# Altium footprint library Led_Matrix.PcbLib: 23 footprints (part 2 of 2)
Each footprint in its own frame and in the unit in brackets; x right, y up, seen from the top. Pads: shape width x height; smd on the part's side, far side on the other; paste and mask are expansions set on the pad; w line width, h text height; cw(c..) or ccw(c..) is an arc to the next point about the centre after c.
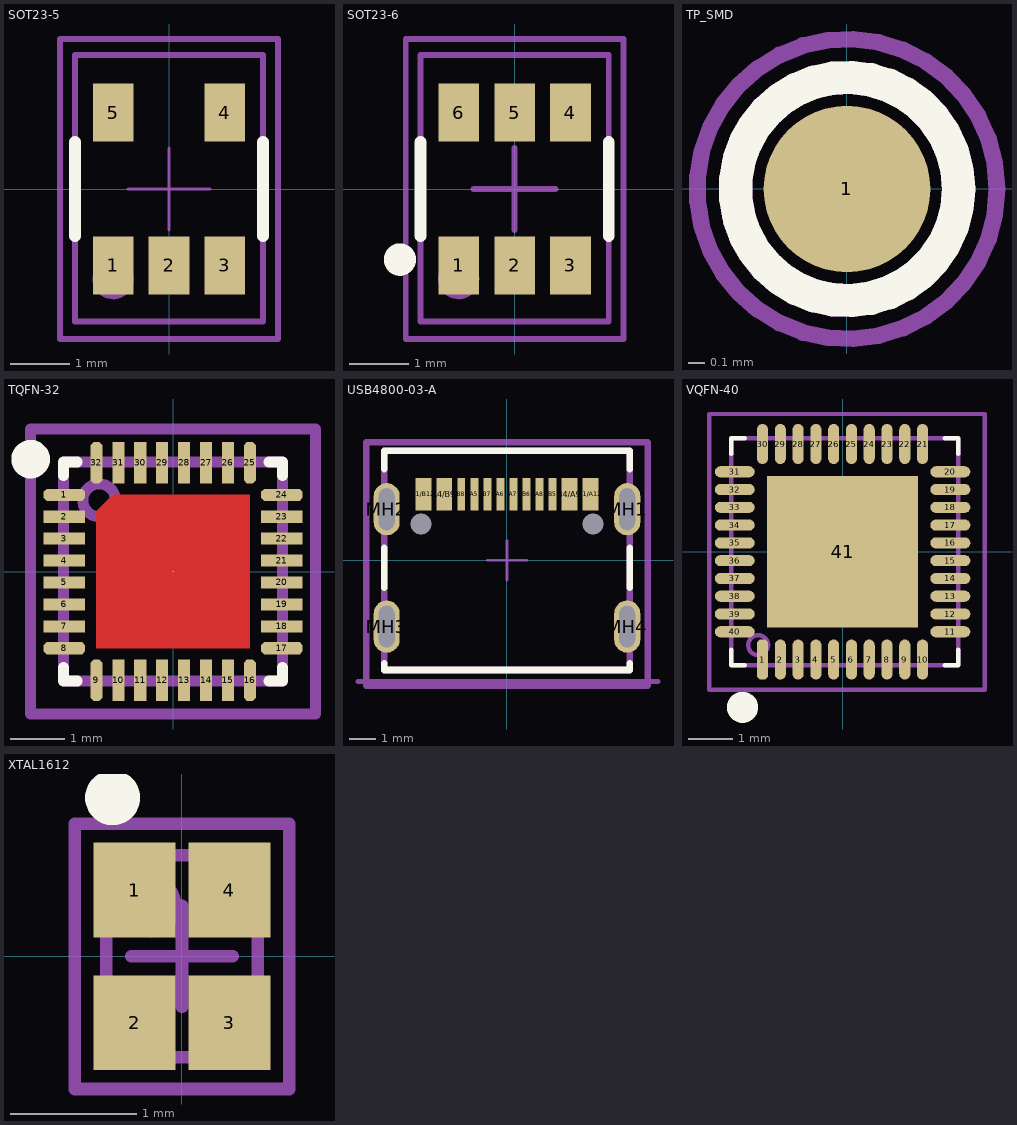
[diagram p1: the footprints below, top view; thin cyan lines are the x and y axes]

## SOT23-5 [mm]
pads (5):
  rect 0.69x0.99 smd: 1(-0.95,-1.3) 2(0,-1.3) 3(0.95,-1.3) 4(0.95,1.3) 5(-0.95,1.3)
Top Overlay:
  lines w0.2: -1.6,-0.8 -1.6,0.8 ; 1.6,-0.8 1.6,0.8
Top Assembly:
  circle w0.1: c-0.95,-1.525 r0.3
  lines w0.1: -1.6,-2.25 1.6,-2.25 1.6,2.275 -1.6,2.275 -1.6,-2.25
Top Designator:
  text ".Designator" at -0.625,-1.9 h1
Top Value:
  text ".Comment" at 1.014,-2.1 h1
Top Courtyard:
  lines w0.05: -0.7,0 0,0 ; -0.004,0 0.696,0 ; -0.002,-0.698 -0.002,0.002 ; -0.002,0 -0.002,0.7
  lines w0.1: -1.85,-2.55 1.85,-2.55 1.85,2.55 -1.85,2.55 -1.85,-2.55
3D body "MIC5219-3.3YM5-TR.stp": height 1.45, standoff 0, extent -1.45,-1.4 1.45,1.4

## SOT23-6 [mm]
pads (6):
  rect 0.69x0.99 smd: 1(-0.95,-1.3) 2(0,-1.3) 3(0.95,-1.3) 4(0.95,1.3) 5(0,1.3) 6(-0.95,1.3)
Top Overlay:
  circle w0.3: c-1.95,-1.2 r0.125
  lines w0.2: -1.6,-0.8 -1.6,0.8 ; 1.6,-0.8 1.6,0.8
Top Solder:
  circle w0.5: c-1.6,-2.25 r0.09
Top Assembly:
  circle w0.1: c-0.95,-1.525 r0.3
  lines w0.1: -1.6,-2.25 1.6,-2.25 1.6,2.275 -1.6,2.275 -1.6,-2.25
Top Designator:
  text ".Designator" at -0.625,-1.9 h1
Top Value:
  text ".Comment" at 1.014,-2.1 h1
Top Courtyard:
  lines w0.1: -0.7,0 0,0 ; -0.004,0 0.696,0 ; -0.002,-0.698 -0.002,0.002 ; -0.002,0 -0.002,0.7 ; -1.85,-2.55 1.85,-2.55 1.85,2.55 -1.85,2.55 -1.85,-2.55
3D body "SOT26_AP3445_DIO.step": height 1.4, standoff 0, extent -1.55,-1.499 1.548,1.499

## TP_SMD [mm]
pads (1):
  round 1 smd paste-0.5 mask+0: 1(0,0)
Top Overlay:
  circle w0.2: c0,0 r0.67
Top Assembly:
  circle w0.2: c0,0 r0.67
Top Designator:
  text ".Designator" at -0.2,0.125 h0.6
Top Courtyard:
  circle w0.1: c0,0 r0.9
  lines w0.1: -0.25,0 0.25,0 ; 0,-0.25 0,0.25

## TQFN-32 [mm]
pads (33):
  oct 0.76x0.22 smd mask+0.05: 1(-1.985,1.4) 8(-1.985,-1.4) 17(1.985,-1.4) 24(1.985,1.4)
  rect 0.76x0.22 smd mask+0.05: 2(-1.985,1) 3(-1.985,0.6) 4(-1.985,0.2) 5(-1.985,-0.2) 6(-1.985,-0.6) 7(-1.985,-1) 18(1.985,-1) 19(1.985,-0.6) 20(1.985,-0.2) 21(1.985,0.2) 22(1.985,0.6) 23(1.985,1)
  oct 0.22x0.76 smd mask+0.05: 9(-1.4,-1.985) 16(1.4,-1.985) 25(1.4,1.985) 32(-1.4,1.985)
  rect 0.22x0.76 smd mask+0.05: 10(-1,-1.985) 11(-0.6,-1.985) 12(-0.2,-1.985) 13(0.2,-1.985) 14(0.6,-1.985) 15(1,-1.985) 26(1,1.985) 27(0.6,1.985) 28(0.2,1.985) 29(-0.2,1.985) 30(-0.6,1.985) 31(-1,1.985)
  round 0.025 smd paste-0.1 mask+0.05: 33(0,0)
Top Layer:
  region: -1.4,-1.4 -1.4,1.1 -1.1,1.4 1.4,1.4 1.4,-1.4
Top Overlay:
  circle w0.4: c-2.6,2.05 r0.151
  lines w0.2: -2,-1.75 -2,-2 -1.75,-2 ; -2,1.75 -2,2 -1.75,2 ; 1.75,-2 2,-2 2,-1.75 ; 1.75,2 2,2 2,1.75
Top Solder:
  circle w0.6: c-2.15,2.8 r0.075
Top Assembly:
  circle w0.2: c-1.35,1.3 r0.3
  lines w0.2: -2,-2 2,-2 2,2 -2,2 -2,-2
Top Designator:
  text ".Designator" at -0.385,0.6 h1
Top Value:
  text ".Comment" at -1.985,-1.389 h1
Top Courtyard:
  lines w0.2: -0.7,0 0.7,0 ; 0,-0.7 0,0.7 ; -2.6,-2.6 -2.6,2.6 2.6,2.6 2.6,-2.6 -2.6,-2.6
3D body "User Library-QFN 32.step": height 0.61, standoff 0, extent -2.001,-2.001 2.001,2.001

## USB4800-03-A [mm]
pads (18):
  round 0 hole 0.8 unplated paste+0 mask+0.05: 0(-3.3,1.403) 0(3.3,1.403)
  rect 0.6x1.25 smd paste+0 mask+0.05: A1/B12(-3.2,2.538) A4/B9(-2.4,2.538) B1/A12(3.2,2.538) B4/A9(2.4,2.538)
  rect 0.3x1.25 smd paste+0 mask+0.05: A5(-1.25,2.538) A6(-0.25,2.538) A7(0.25,2.538) B5(1.75,2.538) B7(-0.75,2.538) B8(-1.75,2.538)
  rect 0.3x1.25 smd mask+0.05: A8(1.25,2.538) B6(0.75,2.538)
  oval 1x2 hole 0.6 slot 1.6 at 90 deg paste+0 mask+0.05: MH1(4.61,1.963) MH2(-4.61,1.963) MH3(-4.61,-2.537) MH4(4.61,-2.537)
Top Overlay:
  lines w0.254: -4.7,-3.95 -4.7,-4.2 4.7,-4.2 4.7,-3.95 ; -4.7,-1.05 -4.7,0.475 ; -4.7,3.5 -4.7,4.2 4.7,4.2 4.7,3.5 ; 4.7,-1.05 4.7,0.475
Top Paste:
  region: 5.1,-2.05 5.1,-1.951 5.024,-1.767 4.883,-1.626 4.699,-1.55 4.6,-1.55 4.506,-1.55 4.331,-1.622 4.197,-1.756 4.125,-1.931 4.125,-2.025 4.125,-3.025 4.125,-3.124 4.201,-3.308 4.342,-3.449 4.526,-3.525 4.625,-3.525 4.719,-3.525 4.894,-3.453 5.028,-3.319 5.1,-3.144 5.1,-3.05
  region: -4.12,-2.05 -4.12,-1.951 -4.196,-1.767 -4.337,-1.626 -4.521,-1.55 -4.62,-1.55 -4.714,-1.55 -4.889,-1.622 -5.023,-1.756 -5.095,-1.931 -5.095,-2.025 -5.095,-3.025 -5.095,-3.124 -5.019,-3.308 -4.878,-3.449 -4.694,-3.525 -4.595,-3.525 -4.501,-3.525 -4.326,-3.453 -4.192,-3.319 -4.12,-3.144 -4.12,-3.05
  region: -4.12,2.45 -4.12,2.549 -4.196,2.733 -4.337,2.874 -4.521,2.95 -4.62,2.95 -4.714,2.95 -4.889,2.878 -5.023,2.744 -5.095,2.569 -5.095,2.475 -5.095,1.475 -5.095,1.376 -5.019,1.192 -4.878,1.051 -4.694,0.975 -4.595,0.975 -4.501,0.975 -4.326,1.047 -4.192,1.181 -4.12,1.356 -4.12,1.45
  region: 5.1,2.45 5.1,2.549 5.024,2.733 4.883,2.874 4.699,2.95 4.6,2.95 4.506,2.95 4.331,2.878 4.197,2.744 4.125,2.569 4.125,2.475 4.125,1.475 4.125,1.376 4.201,1.192 4.342,1.051 4.526,0.975 4.625,0.975 4.719,0.975 4.894,1.047 5.028,1.181 5.1,1.356 5.1,1.45
Mechanical 1:
  lines w0.2: -5.71,-4.637 5.79,-4.637
  text "PCB EDGE" at -5.71,-5.526 h1
Top Assembly:
  lines w0.254: -4.7,-4.2 -4.7,4.2 4.7,4.2 4.7,-4.2 -4.7,-4.2
Top Designator:
  text ".Designator" at -0.1,-0.1 h1
Top Value:
  text ".Comment" at -3.75,-2.939 h1
Top Courtyard:
  lines w0.1: -0.75,0 0.75,0 ; 0,-0.75 0,0.75
  lines w0.254: -5.4,-4.8 5.4,-4.8 5.4,4.525 -5.4,4.525 -5.4,-4.8
3D body "USB4800-03-A--3DModel-STEP-56544.STEP": height 5.38, standoff -1.3, extent -4.735,-5.475 4.735,2.925

## VQFN-40 [mm]
pads (41):
  oct 0.25x0.9 smd paste-0.05 mask+0.05: 1(-1.8,-2.425)
  oval 0.25x0.9 smd paste-0.05 mask+0.05: 2(-1.4,-2.425) 3(-1,-2.425) 4(-0.6,-2.425) 5(-0.2,-2.425) 6(0.2,-2.425) 7(0.6,-2.425) 8(1,-2.425) 9(1.4,-2.425) 10(1.8,-2.425) 21(1.8,2.425) 22(1.4,2.425) 23(1,2.425) 24(0.6,2.425) 25(0.2,2.425) 26(-0.2,2.425) 27(-0.6,2.425) 28(-1,2.425) 29(-1.4,2.425) 30(-1.8,2.425)
  oval 0.9x0.25 smd paste-0.05 mask+0.05: 11(2.425,-1.8) 12(2.425,-1.4) 13(2.425,-1) 14(2.425,-0.6) 15(2.425,-0.2) 16(2.425,0.2) 17(2.425,0.6) 18(2.425,1) 19(2.425,1.4) 20(2.425,1.8) 31(-2.425,1.8) 32(-2.425,1.4) 33(-2.425,1) 34(-2.425,0.6) 35(-2.425,0.2) 36(-2.425,-0.2) 37(-2.425,-0.6) 38(-2.425,-1) 39(-2.425,-1.4) 40(-2.425,-1.8)
  rect 3.4x3.4 smd paste-2539.97 mask+0.05: 41(0,0)
Top Overlay:
  circle w0.4: c-2.25,-3.5 r0.15
  lines w0.1: -2.5,-2.2 -2.5,-2.55 -2.2,-2.55 ; -2.5,2.2 -2.5,2.55 -2.2,2.55 ; 2.3,-2.55 2.6,-2.55 2.6,-2.2 ; 2.3,2.55 2.6,2.55 2.6,2.2
Top Paste:
  region: 1.45,-0.25 0.25,-0.25 0.25,-1.45 1.45,-1.45
  rectangle: -1.45,-1.45 -0.25,-0.25
  rectangle: -1.45,0.25 -0.25,1.45
  region: 1.45,1.45 0.25,1.45 0.25,0.25 1.45,0.25
Top Assembly:
  circle w0.1: c-1.9,-2.1 r0.224
  lines w0.1: -2.5,-2.55 2.6,-2.55 2.6,2.55 -2.5,2.55 -2.5,-2.55
Top Designator:
  text ".Designator" at 0,-0.094 h0.5
Top Value:
  text ".Comment" at -2.4,2.494 h0.5
Top Courtyard:
  lines w0.1: -0.3,0 0,0 ; 0,-0.3 0,0 ; 0,0.3 0,0 ; 0.3,0 0,0 ; -3,-3.1 -3,3.1 3.2,3.1 3.2,-3.1 -3,-3.1
3D body "RKP0040B.stp": height 1, standoff 0, extent -2.5,-2.5 2.5,2.5

## XTAL1612 [mm]
pads (4):
  rect 0.65x0.75 smd mask+0.025: 1(-0.375,0.525) 2(-0.375,-0.525) 3(0.375,-0.525) 4(0.375,0.525)
Top Overlay:
  circle w0.3: c-0.549,1.257 r0.068
Top Solder:
  circle w0.3: c-1,1.022 r0.056
Top Assembly:
  circle w0.1: c-0.253,0.401 r0.2
  lines w0.1: -0.6,-0.8 0.6,-0.8 0.6,0.8 -0.6,0.8 -0.6,-0.8
Top Designator:
  text ".Designator" at 0.2,0.175 h0.7
Top Value:
  text ".Comment" at -0.592,0.8 h0.7
Top Courtyard:
  lines w0.1: -0.4,0 0,0 0.4,0 ; 0,-0.4 0,0.4 ; -0.85,-1.05 0.85,-1.05 0.85,1.05 -0.85,1.05 -0.85,-1.05
3D body "ECS-384-10-47-CKM-TR.STEP": height 0.35, standoff 0, extent -0.6,-0.8 0.6,0.8